# EAGLE library part TPS730 (library marionette)
Low Noise LDO Vin = (2.7V, 5.5V), Vout = (1.22V, 5.5V), Imax = 200mA, Vdropout = 120mV, PSRR > 60dB, Noise < 33uV (100Hz, 100kHz), Bandgap filter capacitor pin, v
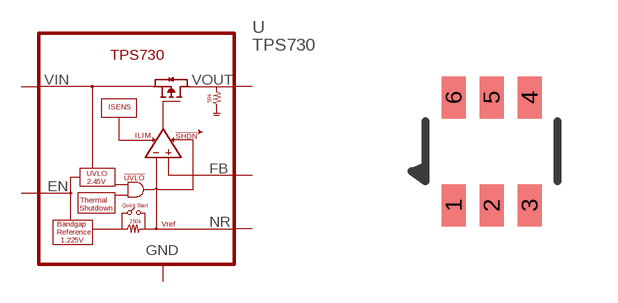
[diagram p19: symbol with the pads of SOT23-6; footprint SOT23-6]

Designator prefix U

## TPS730  [SOT23-6]
1  VIN  pwr
2  GND  pwr
3  EN  in
4  NR  pas
5  FB  in
6  VOUT  pwr

## Footprint SOT23-6 (pad centres in mm)
Package for SOT23-6, or in TI-speak: R-PDSO-G6. From TPS730 datasheet
smd 0.6 x 1.05: 1 -0.95,-1.35; 2 0,-1.35; 3 0.95,-1.35; 4 0.95,1.35; 5 0,1.35; 6 -0.95,1.35